# EAGLE library part TC7660 (library vreg-linear)
IC REG SWITCHD CAP INV ADJ
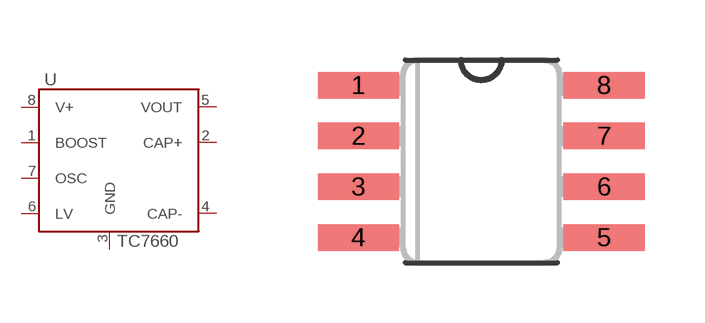
[diagram p4: symbol with the pads of SOIC8; footprint SOIC8]

Designator prefix U

## TC7660S (DIGIKEY: TC7660SEOA713CT-ND; P1I: o)  [SOIC8]
1  BOOST
2  CAP+
3  GND
4  CAP-
5  VOUT
6  LV
7  OSC
8  V+

## Footprint SOIC8 (pad centres in mm)
Small Outline Package
smd 2.032 x 0.66: 1 -3.073,1.905; 2 -3.073,0.635; 3 -3.073,-0.635; 4 -3.073,-1.905; 5 3.073,-1.905; 6 3.073,-0.635; 7 3.073,0.635; 8 3.073,1.905